# EAGLE library part AT_1SH-A-05-XR (library added_parts)
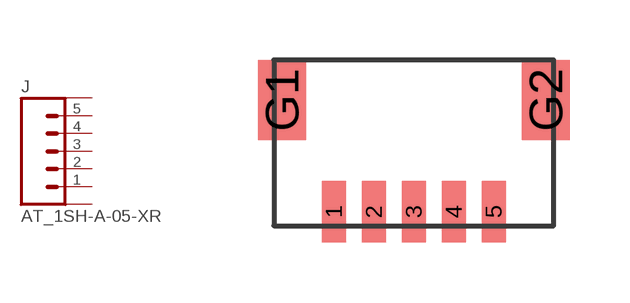
[diagram p21: symbol with the pads of AT_1SH-A-05-XR; footprint AT_1SH-A-05-XR]

Designator prefix J

## AT_1SH-A-05-XR  [AT_1SH-A-05-XR]
1  1  pas
2  2  pas
3  3  pas
4  4  pas
5  5  pas
G1  G1  pas
G2  G2  pas

## Footprint AT_1SH-A-05-XR (pad centres in mm)
smd 0.6 x 1.55: 1 -2,-2.275; 2 -1,-2.275; 3 0,-2.275; 4 1,-2.275; 5 2,-2.275
smd 1.2 x 2: G1 -3.3,0.525; G2 3.3,0.525